# Altium schematic symbol library SCH - POWER - SWITCHMODE - TI TPS60403.SCHLIB: 1 symbol
Pins are listed as number, name and electrical type; pins without a type are passive.

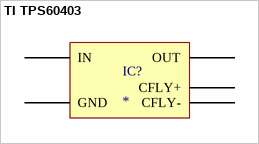
[diagram p0: symbol TI TPS60403]

## TI TPS60403
designator IC?
pins: 1 OUT, 2 IN, 3 CFLY-, 4 GND, 5 CFLY+